# EAGLE library part AD9283 (library ICs)
Simple, fast, low cost 8bit 100MHz ADC, Analog devices, SSOP20.
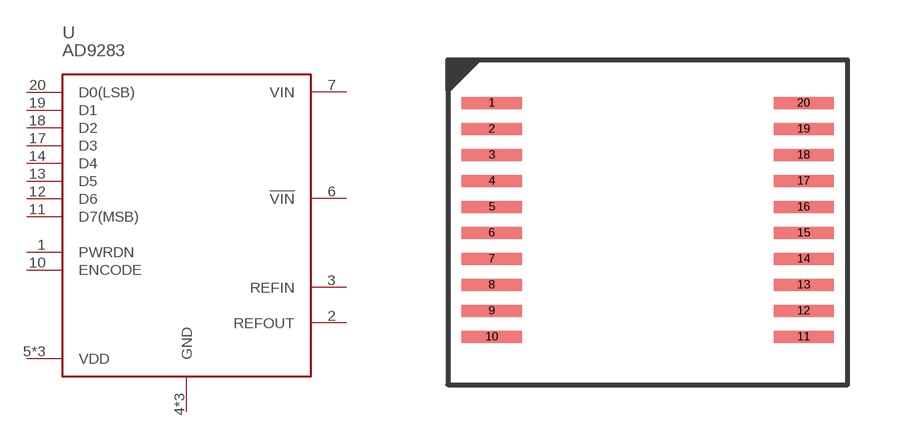
[diagram p30: symbol with the pads of SSOP20-5MM; footprint SSOP20-5MM]

Designator prefix U

## AD9283BRS-50Z (FARNELL: 2305585)  [SSOP20-5MM]
1  PWRDN
2  REFOUT
3  REFIN
4  GND
5  VDD
6  !VIN
7  VIN
8  VDD
9  GND
10  ENCODE
11  D7(MSB)
12  D6
13  D5
14  D4
15  VDD
16  GND
17  D3
18  D2
19  D1
20  D0(LSB)

## Footprint SSOP20-5MM (pad centres in mm)
smd 1.5 x 0.3: 1 -3.9,2.925; 2 -3.9,2.275; 3 -3.9,1.625; 4 -3.9,0.975; 5 -3.9,0.325; 6 -3.9,-0.325; 7 -3.9,-0.975; 8 -3.9,-1.625; 9 -3.9,-2.275; 10 -3.9,-2.925; 11 3.9,-2.925; 12 3.9,-2.275; 13 3.9,-1.625; 14 3.9,-0.975; 15 3.9,-0.325; 16 3.9,0.325; 17 3.9,0.975; 18 3.9,1.625; 19 3.9,2.275; 20 3.9,2.925